# EAGLE library part 687116183622 (library Eagle_FPC_CONNECTOR_AND_FFC_CAB (rev18c))
687116183622 WR-FPC 0.50mm SMT Horizontal Top Contact - Low Profile <http://katalog.we-online.de/media/images/v2/Family_WR-FPC_6871xx183622.jpg> Details see: http://katalog.we-online.de/en/em/FPC_0_5_SMT_ZIF_HORIZONTAL_TOP_CONTACT_LOW_PROFILE_6871xx183622 Created by Yingchun,shan 2016 (C) Wurth Elektronik
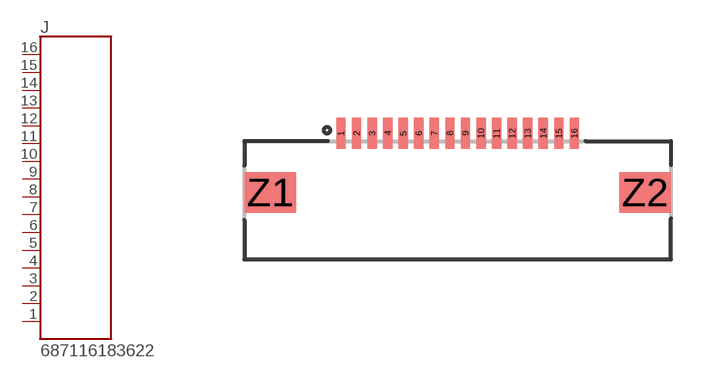
[diagram p180: symbol with the pads of 687116183622; footprint 687116183622]

Designator prefix J

## 687116183622  [687116183622]
1  16  pas
2  15  pas
3  14  pas
4  13  pas
5  12  pas
6  11  pas
7  10  pas
8  9  pas
9  8  pas
10  7  pas
11  6  pas
12  5  pas
13  4  pas
14  3  pas
15  2  pas
16  1  pas

## Footprint 687116183622 (pad centres in mm)
smd 0.3 x 1: 1 -3.75,1.9; 2 -3.25,1.9; 3 -2.75,1.9; 4 -2.25,1.9; 5 -1.75,1.9; 6 -1.25,1.9; 7 -0.75,1.9; 8 -0.25,1.9; 9 0.25,1.9; 10 0.75,1.9; 11 1.25,1.9; 12 1.75,1.9; 13 2.25,1.9; 14 2.75,1.9; 15 3.25,1.9; 16 3.75,1.9
smd 1.65 x 1.3: Z1 -6.025,0; Z2 6.025,0